# Altium footprint library PDRV8243HRXYQ1.PcbLib: 1 footprints
Each footprint in its own frame and in the unit in brackets; x right, y up, seen from the top. Pads: shape width x height; smd on the part's side, far side on the other; paste and mask are expansions set on the pad; w line width, h text height; cw(c..) or ccw(c..) is an arc to the next point about the centre after c.
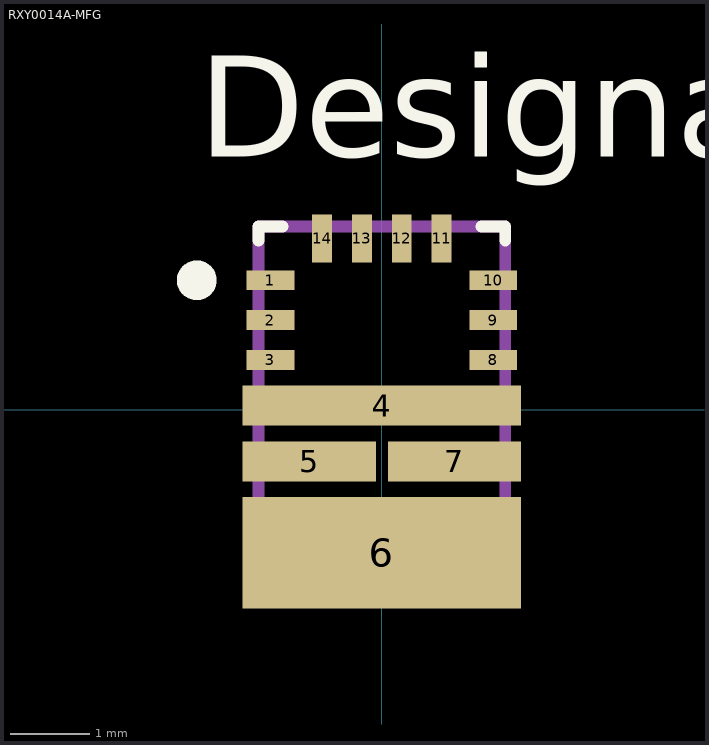
[diagram p0: the footprint, top view; thin cyan lines are the x and y axes]

## RXY0014A-MFG [mm]
pads (14):
  rect 0.6x0.25 smd paste+0 mask-0.292: 1(-1.4,1.625) 2(-1.4,1.125) 3(-1.4,0.625) 8(1.4,0.625) 9(1.4,1.125) 10(1.4,1.625)
  rect 3.5x0.5 smd paste-1.737 mask-1.74: 4(0,0.05)
  rect 1.675x0.5 smd paste-0.825 mask-0.826: 5(-0.913,-0.65) 7(0.913,-0.65)
  rect 3.5x1.4 smd paste-1.737 mask-1.74: 6(0,-1.8)
  rect 0.25x0.6 smd paste+0 mask-0.292: 11(0.75,2.15) 12(0.25,2.15) 13(-0.25,2.15) 14(-0.75,2.15)
Top Overlay:
  circle w0.25: c-2.325,1.625 r0.125
  lines w0.15: -1.55,2.125 -1.55,2.3 -1.25,2.3 ; 1.25,2.3 1.55,2.3 1.55,2.125
  text "Designator119" at -2.309,3.175 h1.27
Top Paste:
  region: -1.65,-1.475 -1.7,-1.425 -1.7,-1.275 -1.65,-1.225 -1.35,-1.225 -1.35,-1.15 1.35,-1.15 1.35,-1.225 1.65,-1.225 1.7,-1.275 1.7,-1.425 1.65,-1.475 1.35,-1.475 1.35,-1.55 0.875,-1.55 0.875,-2.4 0.825,-2.45 0.675,-2.45 0.625,-2.4 0.625,-1.55 0.375,-1.55 0.375,-2.4 0.325,-2.45 0.175,-2.45 0.125,-2.4 0.125,-1.55 -0.125,-1.55 -0.125,-2.4 -0.175,-2.45 -0.325,-2.45 -0.375,-2.4 -0.375,-1.55 -0.625,-1.55 -0.625,-2.4 -0.675,-2.45 -0.825,-2.45 -0.875,-2.4 -0.875,-1.55 -1.35,-1.55 -1.35,-1.475
  region: 1.65,-0.525 1.7,-0.575 1.7,-0.725 1.65,-0.775 1.35,-0.775 1.35,-0.85 0.175,-0.85 0.125,-0.8 0.125,-0.5 0.175,-0.45 1.35,-0.45 1.35,-0.525
  region: -1.65,-0.775 -1.7,-0.725 -1.7,-0.575 -1.65,-0.525 -1.35,-0.525 -1.35,-0.45 -0.175,-0.45 -0.125,-0.5 -0.125,-0.8 -0.175,-0.85 -1.35,-0.85 -1.35,-0.775
  region: 1.7,0.125 1.7,-0.025 1.65,-0.075 1.35,-0.075 1.35,-0.15 0.175,-0.15 0.125,-0.1 0.125,0.2 0.175,0.25 1.35,0.25 1.35,0.175 1.65,0.175
  region: -1.7,-0.025 -1.7,0.125 -1.65,0.175 -1.35,0.175 -1.35,0.25 -0.175,0.25 -0.125,0.2 -0.125,-0.1 -0.175,-0.15 -1.35,-0.15 -1.35,-0.075 -1.65,-0.075
Top Solder:
  drawing of 15 lines, arcs and shapes, not listed
Mechanical 13:
  lines w0.15: -1.55,-2.3 -1.55,2.3 1.55,2.3 1.55,-2.3 -1.55,-2.3
  text ".Designator" at 0,-0.66 h1.27
3D body: height 0.25, standoff 0, extent 0,0 0.254,0.254